# EAGLE library part AD7792 (library analog-devices)
ADC with On-Chip In-Amp and Reference 3-Channel, Low Noise, Low Power, 16-/24-Bit Σ-Δ
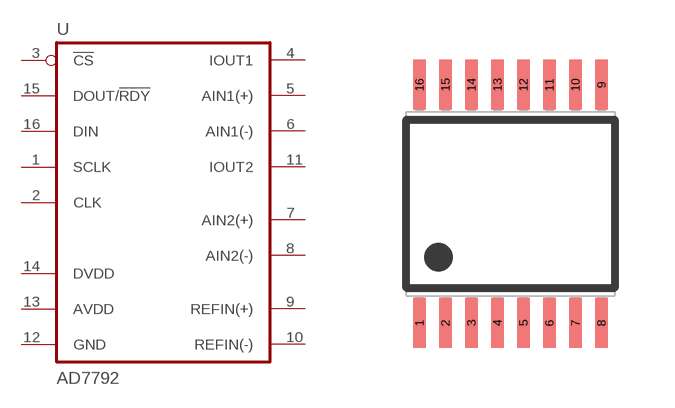
[diagram p86: symbol with the pads of TSSOP16; footprint TSSOP16]

Designator prefix U

## AD7792  [TSSOP16]
1  SCLK  in
2  CLK  in
3  !CS!  in
4  IOUT1  out
5  AIN1(+)  in
6  AIN1(-)  in
7  AIN2(+)  in
8  AIN2(-)  in
9  REFIN(+)  in
10  REFIN(-)  in
11  IOUT2  out
12  GND  pwr
13  AVDD  pwr
14  DVDD  pwr
15  DOUT/!RDY!
16  DIN  in

## Footprint TSSOP16 (pad centres in mm)
Thin Shrink Small Outline Plastic 16
smd 0.31 x 1.25: 1 -2.275,-2.98; 2 -1.625,-2.98; 3 -0.975,-2.98; 4 -0.325,-2.98; 5 0.325,-2.98; 6 0.975,-2.98; 7 1.625,-2.98; 8 2.275,-2.98; 9 2.275,2.98; 10 1.625,2.98; 11 0.975,2.98; 12 0.325,2.98; 13 -0.325,2.98; 14 -0.975,2.98; 15 -1.625,2.98; 16 -2.275,2.98